# Altium footprint library LibreriaComponentes.PcbLib: 44 footprints (part 3 of 3)
Each footprint in its own frame and in the unit in brackets; x right, y up, seen from the top. Pads: shape width x height; smd on the part's side, far side on the other; paste and mask are expansions set on the pad; w line width, h text height; cw(c..) or ccw(c..) is an arc to the next point about the centre after c.
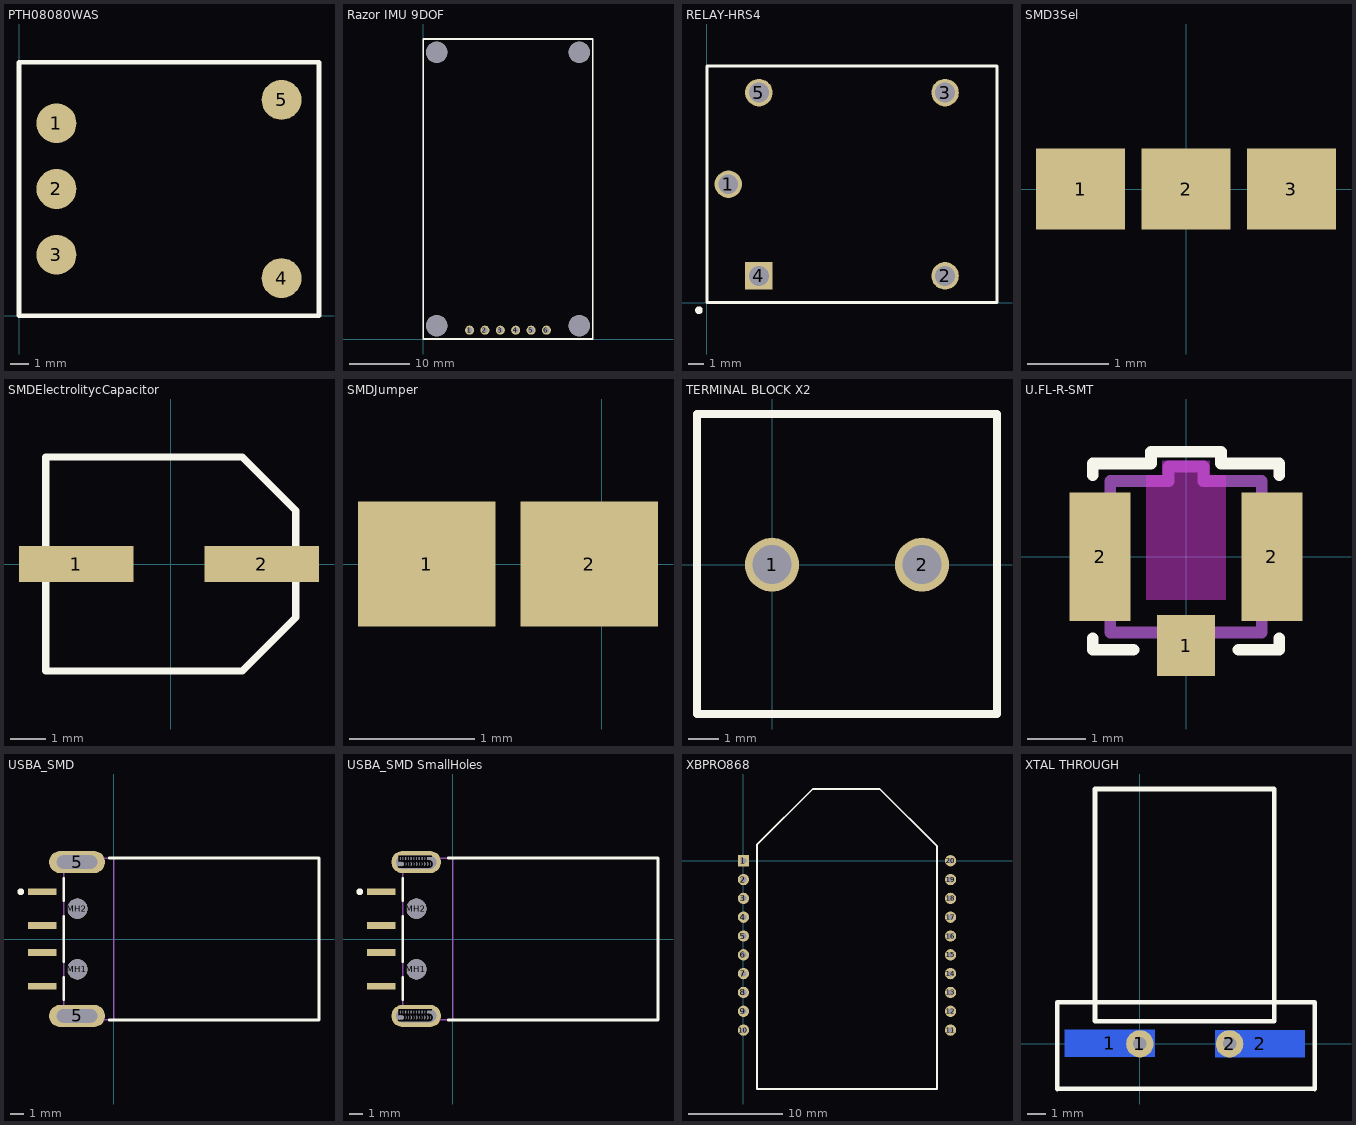
[diagram p2: the footprints below, top view; thin cyan lines are the x and y axes]

## PTH08080WAS [mm]
pads (5):
  round 2.16 smd: 1(2.03,10.42) 2(2.03,6.86) 3(2.03,3.3) 4(14.22,2.035) 5(14.22,11.685)
Top Overlay:
  lines w0.254: 0,0 16.25,0 16.25,13.72 0,13.72 0,0

## Razor IMU 9DOF [mm]
pads (10):
  round 1.5 hole 0.9: 1(7.62,1.46) 2(10.16,1.46) 3(12.7,1.46) 4(15.24,1.46) 5(17.78,1.46) 6(20.32,1.46)
  round 3.5 hole 3.5: ""(2.2,2.2) ""(2.2,47.33) ""(25.74,2.2) ""(25.74,47.33)
Top Overlay:
  lines w0.254: 0,0 27.94,0 27.94,49.53 0,49.53 0,0

## RELAY-HRS4 [mm] "DIP; 5 Round Pins; Row Space 15.24 mm; Pitch 2.54 mm"
height 14
pads (5):
  round 1.8 hole 1.3: 1(1.4,7.75) 2(15.6,1.75) 3(15.6,13.75) 5(3.4,13.75)
  rect 1.8x1.8 hole 1.3: 4(3.4,1.75)
Top Overlay:
  circle w0.25: c-0.525,-0.5 r0.125
  lines w0.2: 0,0 19,0 19,15.5 0,15.5 0,0

## SMD3Sel [mm]
pads (3):
  rect 1.1x1 smd: 1(-1.3,0) 2(0,0) 3(1.3,0)

## SMDElectrolitycCapacitor [mm]
pads (2):
  rect 3.2x1 smd: 1(-2.65,0) 2(2.55,0)
Top Overlay:
  lines w0.2: -3.5,-3 2,-3 3.5,-1.5 3.5,1.5 2,3 -3.5,3 -3.5,-3
3D body: height 0.5, standoff 0, extent -3.4,-2.9 3.4,2.9
3D body: height 5.8, standoff 0.5, extent -3.15,-3.094 3.125,3.194

## SMDJumper [mm]
pads (2):
  rect 1.1x1 smd: 1(-1.4,0) 2(-0.1,0)

## TERMINAL BLOCK X2 [mm]
pads (2):
  round 1.8 hole 1.3: 1(0,0) 2(5,0)
Top Overlay:
  lines w0.254: -2.5,-4.975 -2.5,5.025 7.5,5.025 7.5,-4.975 -2.5,-4.975

## U.FL-R-SMT [mm]
pads (3):
  rect 1x1.05 smd: 1(0,-1.525)
  rect 1.05x2.2 smd: 2(-1.475,0) 2(1.475,0)
Top Layer keep-out:
  region: -0.686,-0.737 0.686,-0.737 0.686,1.397 0.406,1.397 0.406,1.651 -0.406,1.651 -0.406,1.397 -0.686,1.397
Top Overlay:
  lines w0.2: -1.6,-1.4 -1.6,-1.6 -0.9,-1.6 ; -1.6,1.4 -1.6,1.6 -0.6,1.6 -0.6,1.8 0.6,1.8 0.6,1.6 1.6,1.6 1.6,1.4 ; 0.9,-1.6 1.6,-1.6 1.6,-1.4
Mechanical 3:
  lines w0.2: -1.311,-0.9 -1.5,-0.9 -1.5,0.9 -1.311,0.9 ; -1.3,-0.9 -1.3,-1.3 -0.33,-1.3 ; -1.3,0.9 -1.3,1.3 -0.3,1.3 -0.3,1.55 0.3,1.55 0.3,1.3 1.3,1.3 1.3,0.9 ; -0.3,-1.3 -0.3,-1.55 0.3,-1.55 0.3,-1.3 ; 0.33,-1.3 1.3,-1.3 1.3,-0.9 ; 1.311,-0.9 1.5,-0.9 1.5,0.9 1.311,0.9
3D body: height 1.25, standoff 0, extent -0.992,-0.998 1,0.998
3D body: height 0.35, standoff 0, extent -1.5,-1.55 1.5,1.55

## USBA_SMD [mm]
pads (8):
  rect 2.1x0.5 smd: 1(-5.3,3.5) 2(-5.3,1) 3(-5.3,-1) 4(-5.3,-3.5)
  oval 4.15x1.65 hole 1 slot 3 at 0 deg: 5(-2.725,-5.7) 5(-2.725,5.7)
  round 1.5 hole 1.5: MH1(-2.7,-2.25) MH2(-2.7,2.25)
Top Overlay:
  circle w0.25: c-6.9,3.5 r0.125
  lines w0.2: -3.7,-4.475 -3.7,-2.83 ; -3.7,-1.68 -3.7,1.68 ; -3.7,2.83 -3.7,4.475 ; -0.33,-6 15.2,-6 15.2,6 -0.33,6
Mechanical 1:
  lines w0.1: 0,-6 0,6
  text "PCB Edge" at 0.473,-5.173 h0.25
Mechanical 13:
  lines w0.1: -3.7,-6 -3.7,6 15.2,6 15.2,-6 -3.7,-6
3D body: height 4.5, standoff 0, extent -3.7,-6 15.2,6

## USBA_SMD SmallHoles [mm]
pads (28):
  rect 2.1x0.5 smd: 1(-5.3,3.5) 2(-5.3,1) 3(-5.3,-1) 4(-5.3,-3.5)
  round 1.65 hole 1: 5(-3.725,-5.7) 5(-3.725,5.7) 5(-3.525,-5.7) 5(-3.525,5.7) 5(-3.325,-5.7) 5(-3.325,5.7) 5(-3.125,-5.7) 5(-3.125,5.7) 5(-2.925,-5.7) 5(-2.925,5.7) 5(-2.725,-5.7) 5(-2.725,5.7) 5(-2.525,-5.7) 5(-2.525,5.7) 5(-2.325,-5.7) 5(-2.325,5.7) 5(-2.125,-5.7) 5(-2.125,5.7) 5(-1.9,-5.7) 5(-1.9,5.7) 5(-1.7,-5.7) 5(-1.7,5.7)
  round 1.5 hole 1.5: MH1(-2.7,-2.25) MH2(-2.7,2.25)
Top Overlay:
  circle w0.25: c-6.9,3.5 r0.125
  lines w0.2: -3.7,-4.475 -3.7,-2.83 ; -3.7,-1.68 -3.7,1.68 ; -3.7,2.83 -3.7,4.475 ; -0.33,-6 15.2,-6 15.2,6 -0.33,6
Mechanical 1:
  lines w0.1: 0,-6 0,6
  text "PCB Edge" at 0.473,-5.173 h0.25
Mechanical 13:
  lines w0.1: -3.7,-6 15.2,-6 15.2,6 -3.7,6 -3.7,-6
3D body: height 4.5, standoff 0, extent -3.7,-6 15.2,6

## XBPRO868 [mm]
pads (20):
  rect 1.2x1.2 hole 0.6: 1(0,0)
  round 1.2 hole 0.6: 2(0,-2) 3(0,-4) 4(0,-6) 5(0,-8) 6(0,-10) 7(0,-12) 8(0,-14) 9(0,-16) 10(0,-18) 11(22,-18) 12(22,-16) 13(22,-14) 14(22,-12) 15(22,-10) 16(22,-8) 17(22,-6) 18(22,-4) 19(22,-2) 20(22,0)
Top Overlay:
  lines w0.2: 1.435,-24.257 1.435,1.689 7.366,7.62 14.478,7.62 20.565,1.533 20.565,1 20.565,-24.257 1.435,-24.257

## XTAL THROUGH [mm]
pads (4):
  rect 5x1.5 smd far side: 1(-1.684,0.027) 2(6.7,0)
  round 1.524 hole 0.762: 1(0,0) 2(5,0)
Top Overlay:
  lines w0.254: -4.605,-2.517 -4.605,2.313 9.746,2.313 9.746,-2.517 ; -4.605,-2.513 9.746,-2.513 ; -2.5,1.25 -2.5,14.2 7.5,14.2 7.5,1.25 -2.5,1.25
3D body: height 2.5, standoff 0.4, extent -2.4,1.4 7.3,14.1